# Altium footprint library Crystal.PcbLib: 1 footprints
Each footprint in its own frame and in the unit in brackets; x right, y up, seen from the top. Pads: shape width x height; smd on the part's side, far side on the other; paste and mask are expansions set on the pad; w line width, h text height; cw(c..) or ccw(c..) is an arc to the next point about the centre after c.
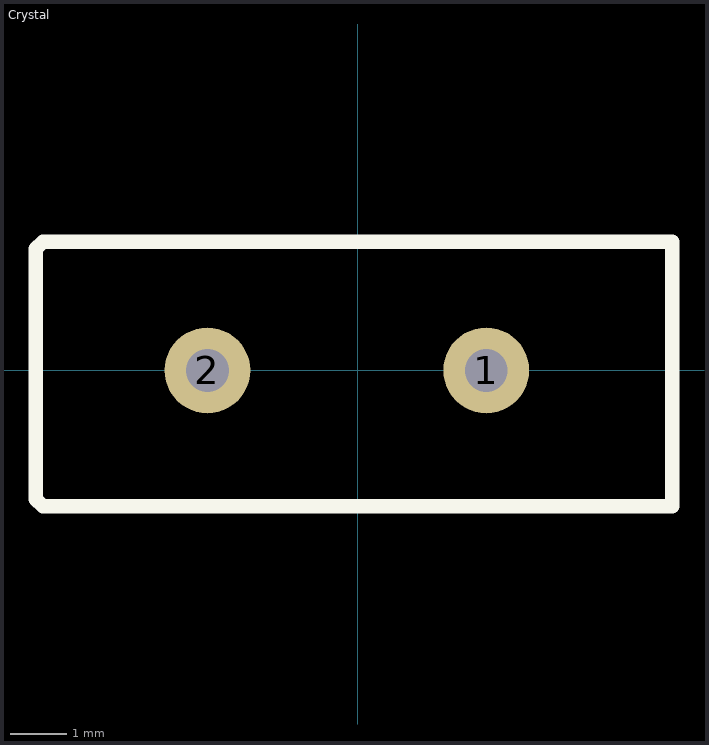
[diagram p0: the footprint, top view; thin cyan lines are the x and y axes]

## Crystal [mil]
pads (2):
  round 60 hole 30: 1(90,0) 2(-105,0)
Top Overlay:
  lines w10: -225,-90 -220,-95 220,-95 220,90 -220,90 -225,85 -225,-90
3D body: height 142.21, standoff -77.87, extent -228.43,-96.54 218.43,86.54